# Altium footprint library ShieldKL25zG18.PcbLib: 8 footprints
Each footprint in its own frame and in the unit in brackets; x right, y up, seen from the top. Pads: shape width x height; smd on the part's side, far side on the other; paste and mask are expansions set on the pad; w line width, h text height; cw(c..) or ccw(c..) is an arc to the next point about the centre after c.
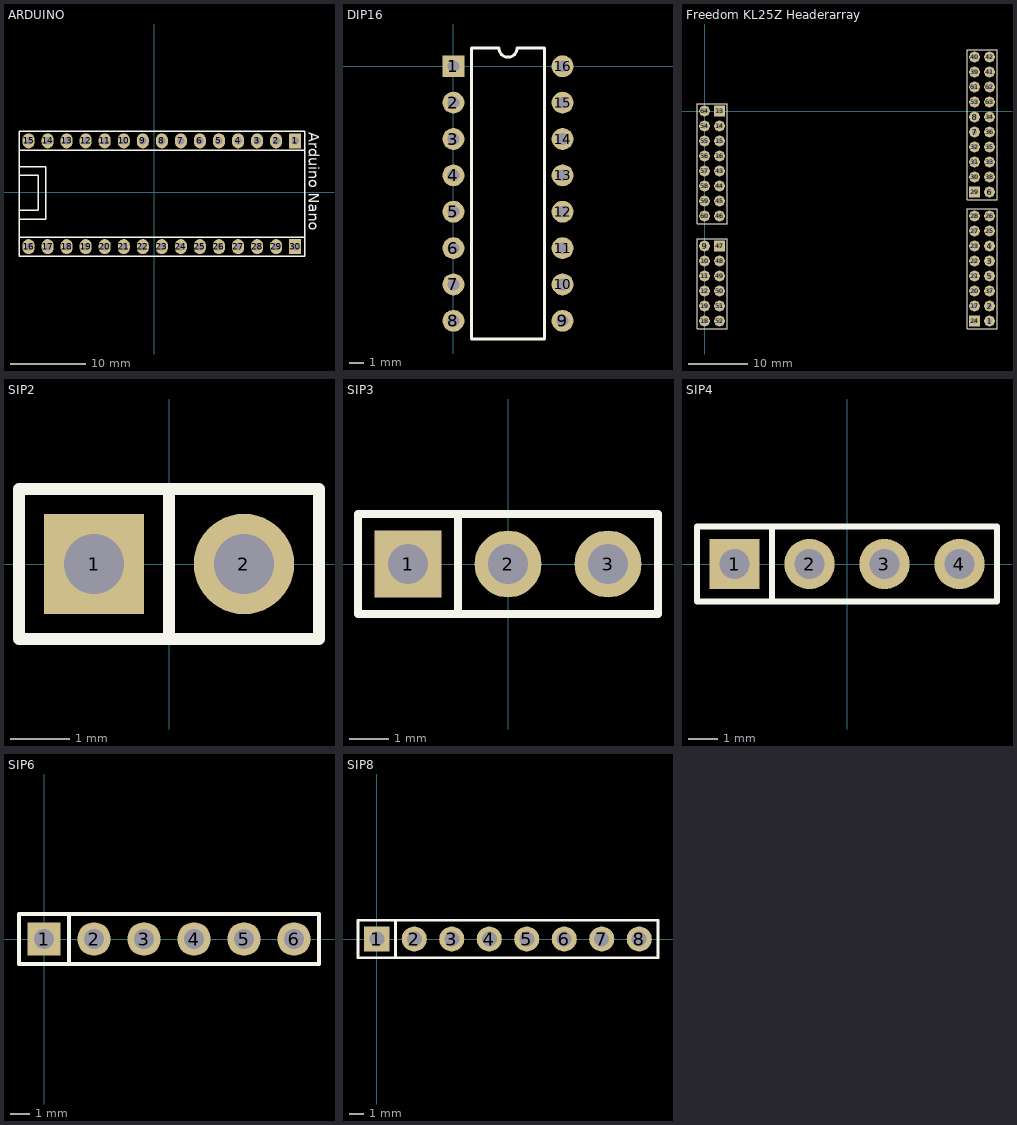
[diagram p0: the footprints below, top view; thin cyan lines are the x and y axes]

## ARDUINO [mm]
pads (30):
  rect 1.6x2 hole 1: 1(18.796,6.858) 30(18.796,-7.239)
  oval 1.6x2 hole 1: 2(16.256,6.858) 3(13.716,6.858) 4(11.176,6.858) 5(8.636,6.858) 6(6.096,6.858) 7(3.556,6.858) 8(1.016,6.858) 9(-1.524,6.858) 10(-4.064,6.858) 11(-6.604,6.858) 12(-9.144,6.858) 13(-11.684,6.858) 14(-14.224,6.858) 15(-16.764,6.858) 16(-16.764,-7.239) 17(-14.224,-7.239) 18(-11.684,-7.239) 19(-9.144,-7.239) 20(-6.604,-7.239) 21(-4.064,-7.239) 22(-1.524,-7.239) 23(1.016,-7.239) 24(3.556,-7.239) 25(6.096,-7.239) 26(8.636,-7.239) 27(11.176,-7.239) 28(13.716,-7.239) 29(16.256,-7.239)
Top Overlay:
  lines w0.2: -18.034,-7.493 -18.034,6.858 ; -18.034,-3.429 -18.034,-3.556 -14.478,-3.556 -14.478,3.429 -18.034,3.429 ; -18.034,-2.413 -15.494,-2.413 -15.494,2.286 -18.034,2.286 ; 20.066,-8.128 20.066,8.001 ; -18.034,-8.509 -18.034,-5.969 20.066,-5.969 20.066,-8.509 18.161,-8.509 -18.034,-8.509 ; -18.034,5.588 -18.034,8.128 20.066,8.128 20.066,5.588 18.161,5.588 -18.034,5.588
  text "Arduino Nano" at 20.574,8.001 h1.4

## DIP16 [mil]
pads (16):
  rect 60x60 hole 32: 1(0,0)
  round 60 hole 32: 2(0,-100) 3(0,-200) 4(0,-300) 5(0,-400) 6(0,-500) 7(0,-600) 8(0,-700) 9(300,-700) 10(300,-600) 11(300,-500) 12(300,-400) 13(300,-300) 14(300,-200) 15(300,-100) 16(300,0)
Top Overlay:
  lines w7.87: 50,-750 250,-750 250,50 175,50 cw(c150,50) 125,50 50,50 50,-750
3D body "DIP16.step": height 78.03, standoff -220, extent -3,-743.7 306.84,43.7

## Freedom KL25Z Headerarray [mm] "Headerarray KL25Z Shield"
pads (64):
  round 1.8 hole 0.9: 1(48.26,-35.56) 2(48.26,-33.02) 3(48.26,-25.4) 4(48.26,-22.86) 5(48.26,-27.94) 6(48.26,-13.716) 7(45.72,-3.556) 8(45.72,-1.016) 9(0,-22.86) 10(0,-25.4) 11(0,-27.94) 12(0,-30.48) 14(2.54,-2.54) 15(2.54,-5.08) 16(2.54,-7.62) 17(45.72,-33.02) 18(0,-35.56) 19(0,-33.02) 20(45.72,-30.48) 21(45.72,-27.94) 22(45.72,-25.4) 23(45.72,-22.86) 25(48.26,-20.32) 26(48.26,-17.78) 27(45.72,-20.32) 28(45.72,-17.78) 30(45.72,-11.176) 31(45.72,-8.636) 32(45.72,-6.096) 33(48.26,-8.636) 34(48.26,-1.016) 35(48.26,-6.096) 36(48.26,-3.556) 37(48.26,-30.48) 38(48.26,-11.176) 39(45.72,6.604) 40(45.72,9.144) 41(48.26,6.604) 42(48.26,9.144) 43(2.54,-10.16) 44(2.54,-12.7) 45(2.54,-15.24) 46(2.54,-17.78) 48(2.54,-25.4) 49(2.54,-27.94) 50(2.54,-30.48) 51(2.54,-33.02) 52(2.54,-35.56) 53(45.72,1.524) 54(0,-2.54) 55(0,-5.08) 56(0,-7.62) 57(0,-10.16) 58(0,-12.7) 59(0,-15.24) 60(0,-17.78) 61(45.72,4.064) 62(48.26,4.064) 63(48.26,1.524) 64(0,0)
  rect 1.8x1.8 hole 0.9: 13(2.54,0) 24(45.72,-35.56) 29(45.72,-13.716) 47(2.54,-22.86)
Top Overlay:
  lines w0.2: -1.27,-36.83 -1.27,-21.59 3.81,-21.59 3.81,-36.83 -1.27,-36.83 ; -1.27,-19.05 3.81,-19.05 3.81,1.27 -1.27,1.27 -1.27,-19.05 ; 44.45,-36.83 49.53,-36.83 49.53,-16.51 44.45,-16.51 44.45,-36.83 ; 44.45,-14.986 49.53,-14.986 49.53,8.509 49.53,10.414 44.45,10.414 44.45,8.509 44.45,-14.986

## SIP2 [mm]
pads (2):
  rect 1.7x1.7 hole 1.016: 1(-1.27,0)
  round 1.7 hole 1.016: 2(1.27,0)
Top Overlay:
  lines w0.2: 0,-1.27 0,1.27 ; -2.54,-1.27 2.54,-1.27 2.54,1.27 -2.54,1.27 -2.54,-1.27

## SIP3 [mm]
pads (3):
  rect 1.7x1.7 hole 1.016: 1(-2.54,0)
  round 1.7 hole 1.016: 2(0,0) 3(2.54,0)
Top Overlay:
  lines w0.2: -1.27,-1.27 -1.27,1.27 ; -3.81,-1.27 3.81,-1.27 3.81,1.27 -3.81,1.27 -3.81,-1.27
3D body "SIP3.step": height 8.38, standoff -2.54, extent -3.81,-1.295 3.81,1.245

## SIP4 [mm]
pads (4):
  rect 1.7x1.7 hole 1.016: 1(-3.81,0)
  round 1.7 hole 1.016: 2(-1.27,0) 3(1.27,0) 4(3.81,0)
Top Overlay:
  lines w0.2: -2.54,-1.27 -2.54,1.27 ; -5.08,-1.27 -5.08,1.27 5.08,1.27 5.08,-1.27 -5.08,-1.27
3D body "SIP4.step": height 8.38, standoff -2.54, extent -5.08,-1.27 5.08,1.27

## SIP6 [mm]
pads (6):
  rect 1.7x1.7 hole 1.016: 1(0,0)
  round 1.7 hole 1.016: 2(2.54,0) 3(5.08,0) 4(7.62,0) 5(10.16,0) 6(12.7,0)
Top Overlay:
  lines w0.2: 1.27,-1.27 1.27,1.27 ; -1.27,-1.27 13.97,-1.27 13.97,1.27 -1.27,1.27 -1.27,-1.27
3D body "SIP3.step": height 8.38, standoff -2.54, extent 6.35,-1.295 13.97,1.245
3D body "SIP3.step": height 8.38, standoff -2.54, extent -1.27,-1.295 6.35,1.245

## SIP8 [mm]
pads (8):
  rect 1.7x1.7 hole 1.016: 1(0,0)
  round 1.7 hole 1.016: 2(2.54,0) 3(5.08,0) 4(7.62,0) 5(10.16,0) 6(12.7,0) 7(15.24,0) 8(17.78,0)
Top Overlay:
  lines w0.2: 1.27,-1.27 1.27,1.27 ; -1.27,-1.27 19.05,-1.27 19.05,1.27 -1.27,1.27 -1.27,-1.27
3D body "SIP4.step": height 8.38, standoff -2.54, extent 8.89,-1.27 19.05,1.27
3D body "SIP4.step": height 8.38, standoff -2.54, extent -1.27,-1.27 8.89,1.27